# Altium schematic symbol library MAX_MAX1983EUT.SchLib: 1 symbol
Pins are listed as number, name and electrical type; pins without a type are passive.

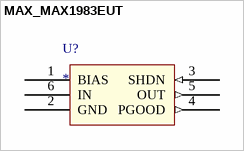
[diagram p0: symbol MAX_MAX1983EUT]

## MAX_MAX1983EUT
designator U?
pins: 1 BIAS (power), 2 GND (power), 3 SHDN (in), 4 PGOOD (out), 5 OUT (out), 6 IN (power)